# Altium schematic symbol library NAVCPeripherals.SchLib: 13 symbols
Pins are listed as number, name and electrical type; pins without a type are passive.

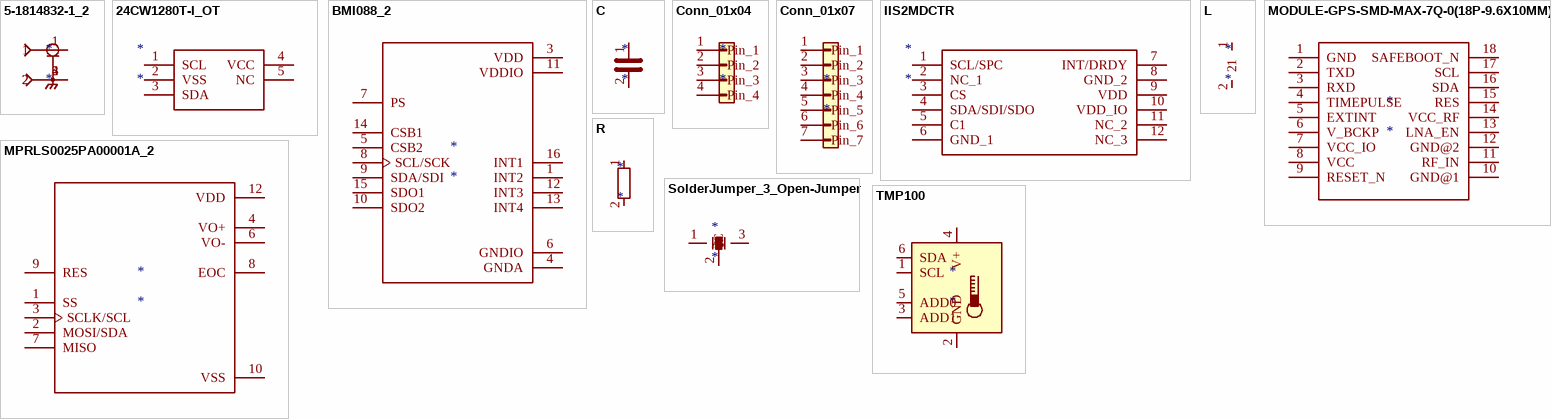
[diagram p0: symbols 5-1814832-1_2 to TMP100]

## 5-1814832-1_2
designator *
pins: 1, 2, 3 2, 4 2, 5 2

## 24CW1280T-I_OT
designator *
pins: 1 SCL, 2 VSS, 3 SDA, 4 VCC, 5 NC

## BMI088_2
designator *
pins: 1 INT2, 3 VDD, 4 GNDA, 5 CSB2, 6 GNDIO, 7 PS, 8 SCL/SCK, 9 SDA/SDI, 10 SDO2, 11 VDDIO, 12 INT3, 13 INT4, 14 CSB1, 15 SDO1, 16 INT1

## C
designator *
pins: 1, 2

## Conn_01x04
designator *
pins: 1 Pin_1, 2 Pin_2, 3 Pin_3, 4 Pin_4

## Conn_01x07
designator *
pins: 1 Pin_1, 2 Pin_2, 3 Pin_3, 4 Pin_4, 5 Pin_5, 6 Pin_6, 7 Pin_7

## IIS2MDCTR
designator *
pins: 1 SCL/SPC, 2 NC_1, 3 CS, 4 SDA/SDI/SDO, 5 C1, 6 GND_1, 7 INT/DRDY, 8 GND_2, 9 VDD, 10 VDD_IO, 11 NC_2, 12 NC_3

## L
designator *
pins: 1, 2

## MODULE-GPS-SMD-MAX-7Q-0(18P-9.6X10MM)_2
designator *
pins: 1 GND, 2 TXD, 3 RXD, 4 TIMEPULSE, 5 EXTINT, 6 V_BCKP, 7 VCC_IO, 8 VCC, 9 RESET_N, 10 GND@1, 11 RF_IN, 12 GND@2, 13 LNA_EN, 14 VCC_RF, 15 RES, 16 SDA, 17 SCL, 18 SAFEBOOT_N

## MPRLS0025PA00001A_2
designator *
pins: 1 SS, 2 MOSI/SDA, 3 SCLK/SCL, 4 VO+, 6 VO-, 7 MISO, 8 EOC, 9 RES, 10 VSS, 12 VDD

## R
designator *
pins: 1, 2

## SolderJumper_3_Open-Jumper
designator *
pins: 1 A, 2 C, 3 B

## TMP100
designator *
pins: 1 SCL, 2 GND, 3 ADD1, 4 V+, 5 ADD0, 6 SDA